# EAGLE library part R_RESISTOR_NETWORK_EXB-V8V103JV (library devon)
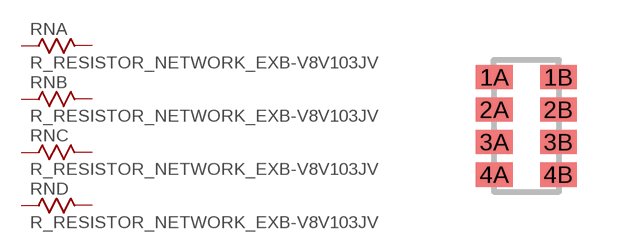
[diagram p9: symbol with the pads of EXBV8V; footprint EXBV8V]

Designator prefix RN; gates A=R_RESISTOR B=R_RESISTOR C=R_RESISTOR D=R_RESISTOR

## R_RESISTOR_NETWORK_EXB-V8V103JV  [EXBV8V]
1A  A:1  pas
1B  A:2  pas
2A  B:1  pas
2B  B:2  pas
3A  C:1  pas
3B  C:2  pas
4A  D:1  pas
4B  D:2  pas

## Footprint EXBV8V (pad centres in mm)
smd 0.914 x 0.61: 1A -0.8,1.219; 1B 0.8,1.219; 2A -0.8,0.406; 2B 0.8,0.406; 3A -0.8,-0.406; 3B 0.8,-0.406; 4A -0.8,-1.219; 4B 0.8,-1.219